# EAGLE library part DIPCORTEX (library DipCortex)
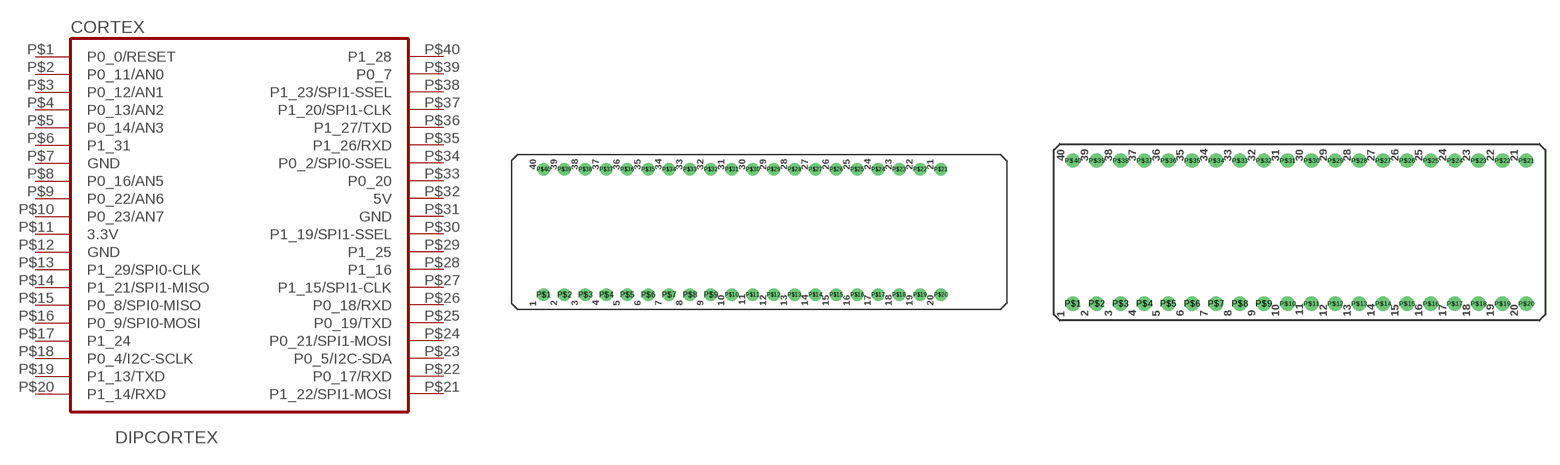
[diagram p0: symbol with the pads of WIFICORTEX; footprints WIFICORTEX, DIPCORTEX]

Designator prefix CORTEX

## DIPCORTEXWIFI_CORTEX  [WIFICORTEX]
P$1  P0_0/RESET
P$2  P0_11/AN0
P$3  P0_12/AN1
P$4  P0_13/AN2
P$5  P0_14/AN3
P$6  P1_31
P$7  GND  pwr
P$8  P0_16/AN5
P$9  P0_22/AN6
P$10  P0_23/AN7
P$11  3.3V  pwr
P$12  GND  pwr
P$13  P1_29/SPI0-CLK
P$14  P1_21/SPI1-MISO
P$15  P0_8/SPI0-MISO
P$16  P0_9/SPI0-MOSI
P$17  P1_24
P$18  P0_4/I2C-SCLK
P$19  P1_13/TXD
P$20  P1_14/RXD
P$21  P1_22/SPI1-MOSI
P$22  P0_17/RXD
P$23  P0_5/I2C-SDA
P$24  P0_21/SPI1-MOSI
P$25  P0_19/TXD
P$26  P0_18/RXD
P$27  P1_15/SPI1-CLK
P$28  P1_16
P$29  P1_25
P$30  P1_19/SPI1-SSEL
P$31  GND  pwr
P$32  5V  pwr
P$33  P0_20
P$34  P0_2/SPI0-SSEL
P$35  P1_26/RXD
P$36  P1_27/TXD
P$37  P1_20/SPI1-CLK
P$38  P1_23/SPI1-SSEL
P$39  P0_7
P$40  P1_28

## DIPCORTEXDIP_CORTEX  [DIPCORTEX]
Pads as for WIFICORTEX

## Footprint WIFICORTEX (pad centres in mm)
drill 1: P$1 -21.59,-7.62; P$2 -19.05,-7.62; P$3 -16.51,-7.62; P$4 -13.97,-7.62; P$5 -11.43,-7.62; P$6 -8.89,-7.62; P$7 -6.35,-7.62; P$8 -3.81,-7.62; P$9 -1.27,-7.62; P$10 1.27,-7.62; P$11 3.81,-7.62; P$12 6.35,-7.62; P$13 8.89,-7.62; P$14 11.43,-7.62; P$15 13.97,-7.62; P$16 16.51,-7.62; P$17 19.05,-7.62; P$18 21.59,-7.62; P$19 24.13,-7.62; P$20 26.67,-7.62; P$21 26.67,7.62; P$22 24.13,7.62; P$23 21.59,7.62; P$24 19.05,7.62; P$25 16.51,7.62; P$26 13.97,7.62; P$27 11.43,7.62; P$28 8.89,7.62; P$29 6.35,7.62; P$30 3.81,7.62; P$31 1.27,7.62; P$32 -1.27,7.62; P$33 -3.81,7.62; P$34 -6.35,7.62; P$35 -8.89,7.62; P$36 -11.43,7.62; P$37 -13.97,7.62; P$38 -16.51,7.62; P$39 -19.05,7.62; P$40 -21.59,7.62

## Footprint DIPCORTEX (pad centres in mm)
drill 1: P$1 -24.13,-7.62; P$2 -21.59,-7.62; P$3 -19.05,-7.62; P$4 -16.51,-7.62; P$5 -13.97,-7.62; P$6 -11.43,-7.62; P$7 -8.89,-7.62; P$8 -6.35,-7.62; P$9 -3.81,-7.62; P$10 -1.27,-7.62; P$11 1.27,-7.62; P$12 3.81,-7.62; P$13 6.35,-7.62; P$14 8.89,-7.62; P$15 11.43,-7.62; P$16 13.97,-7.62; P$17 16.51,-7.62; P$18 19.05,-7.62; P$19 21.59,-7.62; P$20 24.13,-7.62; P$21 24.13,7.62; P$22 21.59,7.62; P$23 19.05,7.62; P$24 16.51,7.62; P$25 13.97,7.62; P$26 11.43,7.62; P$27 8.89,7.62; P$28 6.35,7.62; P$29 3.81,7.62; P$30 1.27,7.62; P$31 -1.27,7.62; P$32 -3.81,7.62; P$33 -6.35,7.62; P$34 -8.89,7.62; P$35 -11.43,7.62; P$36 -13.97,7.62; P$37 -16.51,7.62; P$38 -19.05,7.62; P$39 -21.59,7.62; P$40 -24.13,7.62